# Altium footprint library 22122024.PcbLib: 1 footprints
Each footprint in its own frame and in the unit in brackets; x right, y up, seen from the top. Pads: shape width x height; smd on the part's side, far side on the other; paste and mask are expansions set on the pad; w line width, h text height; cw(c..) or ccw(c..) is an arc to the next point about the centre after c.
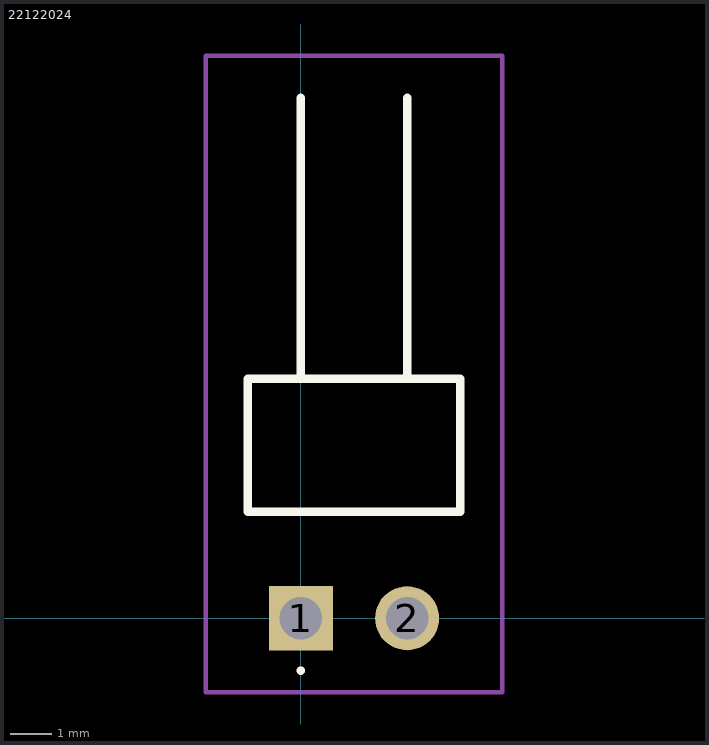
[diagram p0: the footprint, top view; thin cyan lines are the x and y axes]

## 22122024 [mm]
pads (2):
  rect 1.53x1.53 hole 1.02: 1(0,0)
  round 1.53 hole 1.02: 2(2.54,0)
Top Overlay:
  lines w0.1: 0,-1.3 cw(c0,-1.25) 0,-1.2 ; 0,-1.3 0,-1.3 ; 0,-1.3 ccw(c0,-1.25) 0,-1.2 ; 0,-1.2 0,-1.2
  lines w0.2: 0,5.72 0,12.43 ; 2.54,5.72 2.54,12.43 ; -1.27,2.54 3.81,2.54 3.81,5.72 -1.27,5.72 -1.27,2.54
Mechanical 15:
  lines w0.1: 0,5.72 0,12.43 ; 2.54,5.72 2.54,12.43 ; -1.27,2.54 3.81,2.54 3.81,5.72 -1.27,5.72 -1.27,2.54
Mechanical 20:
  lines w0.1: -2.27,-1.765 4.81,-1.765 4.81,13.43 -2.27,13.43 -2.27,-1.765